# Altium schematic symbol library PI3B-NOA (1) (1).SCHLIB: 28 symbols
Pins are listed as number, name and electrical type; pins without a type are passive.

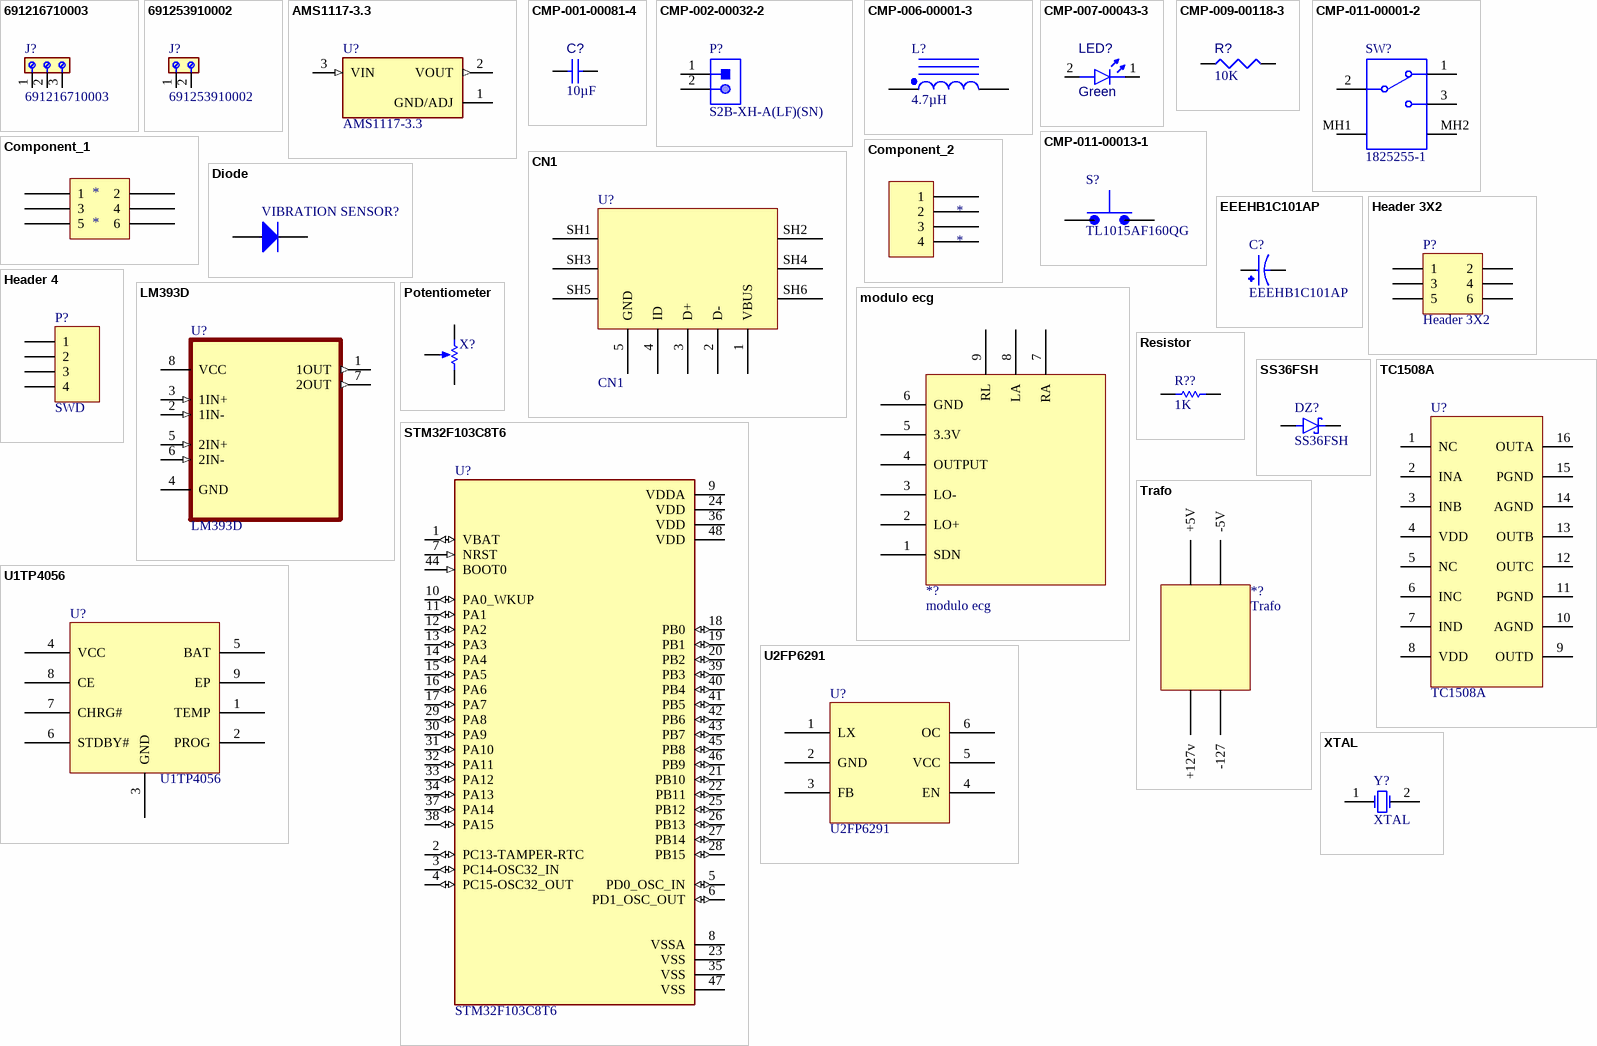
[diagram p0: symbols 691216710003 to XTAL]

## 691216710003
designator J?
5.00 MM TERMINAL BLOCK;; MF: WÃ¼rth Elektronik; SnapEDA_Link: https://www.snapeda.com/parts/691216710003/W%25C3%25BCrth+Elektronik+Midcom/view-part/?ref=snap; Package: None; Value: *; MP: 691216710003; Check_prices: https://www.snapeda.com/parts/691216710003/W%25C3%25BCrth+Elektronik+Midcom/view-part/?ref=eda
footprint 691216710003
pins: 1, 2, 3

## 691253910002
designator J?
7.50 MM TERMINAL BLOCK;; MF: WÃ¼rth Elektronik; SnapEDA_Link: https://www.snapeda.com/parts/691253910002/W%25C3%25BCrth+Elektronik+Midcom/view-part/?ref=snap; Package: None; Value: *; MP: 691253910002; Check_prices: https://www.snapeda.com/parts/691253910002/W%25C3%25BCrth+Elektronik+Midcom/view-part/?ref=eda
footprint 691253910002
pins: 1, 2

## AMS1117-3.3
designator U?
Sot223/Pkg 1-Amp 3.3-Volt Low Drop Out Voltage Regulatator; MF: Advanced Monolithic Systems; SnapEDA_Link: https://www.snapeda.com/parts/AMS1117-3.3/Advanced+Monolithic+Systems/view-part/?ref=snap; Package: SOT-223 Seeed Technology; Value: *; MP: AMS1117-3.3; Check_prices: https://www.snapeda.com/parts/AMS1117-3.3/Advanced+Monolithic+Systems/view-part/?ref=eda
footprint SOT229P700X180-4N
pins: 1 GND/ADJ (power), 2 VOUT (out), 3 VIN (in)

## CMP-001-00081-4
designator C?, comment value 10µF  (hidden comment: Capacitor 22µF +/-40% 16V 0805)
Chip Capacitor, 22µF +/-40%, 16V, 0805, Thickness 1.45 mm; Tolerance: 5%; Voltage Rating: 16V; Mounting Technology: SMT; Pins: 2; Max Operating Temperature: 85°C; Case/Package: 0805; Min Operating Temperature: -55°C
footprint CAPC0805(2012)145_L (Chip Capacitor, Body 2.0x1.2mm, Height 1.45mm, IPC High Density)
pins: 1, 2

## CMP-002-00032-2
designator P?, comment S2B-XH-A(LF)(SN)
Male Header, Pitch 2.5 mm, 1 x 2 Position, Height 6.1 mm, Tail Length 3.4 mm, -25 to 85 degC, RoHS, Bulk; Manufacturer: JST; Case/Package: S2B-XH-A(LF)(SN); Package Description: XH Series Disconnectable Crimp Style Connector, Pitch 2.5 mm, 1 x 2 Position, Height 6.1 mm, Tail Length 3.4 mm; Manufacturer URL: http://www.jst.com/home2.html; Datasheet URL: http://www.jst-mfg.com/product/pdf/eng/eXH.pdf; Connector Type: Header; Package Reference: S2B-XH-A(LF)(SN); Mounting Technology: TH; Max Operating Temperature: 85°C; Min Operating Temperature: -25°C; Datasheet Version: May-16; Gender: Male; RoHS Compliant: Unknown
footprint JST-S2B-XH-A(LF)(SN)_V (Header, 2-Leads, Body 7.4x11.5mm, Pitch 2.5mm)
pins: 1, 2

## CMP-006-00001-3
designator L?, comment Inductance: 4.7µH  (hidden comment: CSAB0630-100M)
Molded Inductor, 10 uH, +/- 20%, 77.2 mOhm, -55 to 125 degC, 2-Pin SMD, RoHS, Tape and Reel; Manufacturer: Shenzhen Codaca; Mounting Technology: SM; Datasheet URL: http://www.murata.com/products/catalog/pdf/c31e.pdf; Tolerance: 20%; RoHS Compliant: Unknown; Manufacturer URL: www.codaca.com.cn; Case/Package: CSAB0630-100M; Datasheet Version: Mar-14; Package Reference: CSAB0630-100M; Package Description: 2-Pin Surface Mount Device, Body 6 x 6 mm
footprint CODA-CSAB0630-100M_V (Molded Inductor, 2-Leads, Body 6.2x6.2mm)
pins: 1, 2

## CMP-007-00043-3
designator LED?, comment Green
Chip LED 0402, Yellow, 0.02 A, 3.1 to 3.7 V, -40 to 80 degC, 2-Pin SMD, RoHS, Tape and Reel; Mounting Technology: SMT; Case/Package: 0402; RoHS Compliant: Yes; Pins: 2; Colour: Yellow
footprint QTB-QBLP595_V (SMD, 2-Leads, Body 1x0.5mm)
pins: 1 K, 2 A

## CMP-009-00118-3
designator R?, comment value 10K  (hidden comment: Resistor 1K +/-5% 0805 125 mW)
Chip Resistor, 1 kOhms, +/-5%, 125 mW, -55 to 155 degC, 0805; Tolerance: 5%; Power: 125mW; Case/Package: 0805; Pins: 2; Min Operating Temperature: -55°C; Max Operating Temperature: 155°C
footprint RESC0805(2012)_L (Chip Resistor, Body 2.0x1.3mm, IPC High Density)
pins: 1, 2
1 alternate drawing of the same symbol

## CMP-011-00001-2
designator SW?, comment 1825255-1
Slide Switch, SPDT, 0.3A, 125 V, -20 to 85 degC, 5-Pin THD, RoHS, Tray; Manufacturer: TE Connectivity; Current Rating: 300mA; Voltage Rating (AC): 125V; Max Contact Resistance: 30mohm; Operating Force: 600gf; Manufacturer URL: http://www.te.com/; Max Current Rating: 300mA; Contact Plating: Silver; Contact Material: Copper; Datasheet URL: http://www.te.com/commerce/DocumentDelivery/DDEController?Action=showdoc&DocId=Customer+Drawing%7F1825255%7FA4%7Fpdf%7FEnglish%7FENG_CD_1825255_A4_baseFilename.pdf%7F1825255-1; Throw Configuration: SPDT; Packaging: Bulk; Package Quantity: 560; Max Voltage Rating (AC): 125V; Mounting Technology: TH; RoHS Compliant: True; Case/Package: 1825255-1; Datasheet Version: Rev. A4, 03/2014; Contact Finish: Silver; Package Reference: 1825255-1; Package Description: 5-Pin Through Hole Device, Body 6.7 x 16 mm, Pitch 4 mm; Min Operating Temperature: -20°C; Max Operating Temperature: 85°C
footprint TECO-1825255-1_V (THD, 5-Leads, Body 6.7x16mm, Pitch 4mm)
pins: 1, 2, 3, MH1, MH2

## CMP-011-00013-1
designator S?, comment TL1015AF160QG
Tactile Switch SPST-NO Top Actuated Surface Mount; Value: *; Component Type: Standard; Design Item ID: TL1015AF160QG; Source: TL1015AF160QG.SchLib; Case/Package: None; MP: TL1015AF160QG; Availability: Unavailable; Pins: 2; Price: None
footprint SW_TL1015AF160QG
pins: 1, 2

## CN1
designator U?
pins: 1 VBUS, 2 D-, 3 D+, 4 ID, 5 GND, SH1, SH2, SH3, SH4, SH5, SH6

## Component_1
designator *
pins: ?1 1, ?2 3, ?3 5, ?4 2, ?5 4, ?6 6

## Component_2
designator *
pins: ?1 1, ?2 2, ?3 3, ?4 4

## Diode
designator VIBRATION SENSOR?  (value not drawn)
AF: 1; BV: 0; BV_MAX: 1e99; EG: 1.11; FC: 0.5; IBV: 0.001; ISR: 1e-14; MJSW: 0.33; NTUN: 30; TNOM: 27; XTI: 3; SimulationGenericComponent: True; CJO: 0; CJP: 0; CTA: 0; CTP: 0; FCS: 0.5; FV_MAX: 1e99; IKF: 0; IKR: 0; JSW: 0; JTUN: 0; JTUNSW: 0; KEG: 1; KF: 0; LEVEL: 1; N: 1; NBV: 1; NR: 1; NS: 1; PHP: 1; RS: 0; TCV: 0; TLEV: 0; TLEVC: 0; TM1: 0; TM2: 0; TPB: 0; TPHP: 0; TRS: 0; TRS2: 0; TT: 0; TTT1: 0; TTT2: 0; VJ: 1; XTITUN: 3; IS: 1e-14
simulation model diode (Diodes)
pins: 1 A, 2 K

## EEEHB1C101AP
designator C?
100ÂµF 16V Aluminum Electrolytic Capacitors Radial, Can - SMD 2000 Hrs @ 105Â°C; MF: Panasonic; MP: EEE-HB1C101AP; SnapEDA_Link: https://www.snapeda.com/parts/EEE-HB1C101AP/Panasonic/view-part/?ref=snap; Package: RADIAL-2 Panasonic; Value: *; Check_prices: https://www.snapeda.com/parts/EEE-HB1C101AP/Panasonic/view-part/?ref=eda
footprint CAP_EEEHB1C101AP
pins: 1, 2

## Header 3X2
designator P?
Header, 3-Pin, Dual row; LatestRevisionDate: 17-Jul-2002; LatestRevisionNote: Re-released for DXP Platform.; Publisher: Altium Limited
footprint HDR2X3 (Connector; Header; 3x2 Position)
signal-integrity model Connector
pins: 1, 2, 3, 4, 5, 6

## Header 4
designator P?, comment SWD
Header, 4-Pin; LatestRevisionDate: 17-Jul-2002; LatestRevisionNote: Re-released for DXP Platform.; Publisher: Altium Limited
footprint HDR1X4 (Connector; Header; 4 Position)
signal-integrity model Connector
pins: 1, 2, 3, 4

## LM393D
designator U?
Comparator General Purpose CMOS, DTL, ECL, MOS, Open-Collector, TTL 8-SOIC; MF: STMicroelectronics; SnapEDA_Link: https://www.snapeda.com/parts/LM393D/STMicroelectronics/view-part/?ref=snap; Package: SOIC-8 STMicroelectronics; Value: *; MP: LM393D; Check_prices: https://www.snapeda.com/parts/LM393D/STMicroelectronics/view-part/?ref=eda
footprint SOIC127P600X175-8N
pins: 1 1OUT (out), 2 1IN- (in), 3 1IN+ (in), 4 GND, 5 2IN+ (in), 6 2IN- (in), 7 2OUT (out), 8 VCC (power)

## modulo ecg
designator *?
footprint MODULE_SEN-12650
pins: 1 SDN, 2 LO+, 3 LO-, 4 OUTPUT, 5 3.3V, 6 GND, 7 RA, 8 LA, 9 RL

## Potentiometer
designator X?  (value not drawn)
value: 1k; position: 0.5; SimulationGenericComponent: True
simulation model POT (POTENTIOMETER)
pins: 1 TOP, 2 BOT, 3 TAP

## Resistor
designator R??  value 1K  (hidden comment: Resistor)
TC1: 0; SimulationGenericComponent: True; TC2: 0
simulation model R_Resistor_Default (Model Description)
pins: 1, 2

## SS36FSH
designator DZ?
3A, 60V, Schottky Rectifier; MF: Taiwan Semiconductor; SnapEDA_Link: https://www.snapeda.com/parts/SS36FSH/Taiwan+Semiconductor/view-part/?ref=snap; Package: SOD-128-2 Taiwan Semiconductor; Value: *; MP: SS36FSH; Check_prices: https://www.snapeda.com/parts/SS36FSH/Taiwan+Semiconductor/view-part/?ref=eda
footprint SODFL4725X110N
pins: A, C K

## STM32F103C8T6
designator U?
ARM® Cortex®-M3 STM32F1 Microcontroller IC 32-Bit 72MHz 64KB (64K x 8) FLASH 48-LQFP (7x7); MF: STMicroelectronics; SnapEDA_Link: https://www.snapeda.com/parts/STM32F103C8T6/STMicroelectronics/view-part/?ref=snap; Package: LQFP-48 STMicroelectronics; Value: *; MP: STM32F103C8T6; Check_prices: https://www.snapeda.com/parts/STM32F103C8T6/STMicroelectronics/view-part/?ref=eda
footprint QFP50P900X900X160-48N
footprint QFP50P900X900X160-48N
pins: 1 VBAT (io), 2 PC13-TAMPER-RTC (io), 3 PC14-OSC32_IN (io), 4 PC15-OSC32_OUT (io), 5 PD0_OSC_IN (io), 6 PD1_OSC_OUT (io), 7 NRST (in), 8 VSSA (power), 9 VDDA (power), 10 PA0_WKUP (io), 11 PA1 (io), 12 PA2 (io), 13 PA3 (io), 14 PA4 (io), 15 PA5 (io), 16 PA6 (io), 17 PA7 (io), 18 PB0 (io), 19 PB1 (io), 20 PB2 (io), 21 PB10 (io), 22 PB11 (io), 23 VSS (power), 24 VDD (power), 25 PB12 (io), 26 PB13 (io), 27 PB14 (io), 28 PB15 (io), 29 PA8 (io), 30 PA9 (io), 31 PA10 (io), 32 PA11 (io), 33 PA12 (io), 34 PA13 (io), 35 VSS (power), 36 VDD (power), 37 PA14 (io), 38 PA15 (io), 39 PB3 (io), 40 PB4 (io), 41 PB5 (io), 42 PB6 (io), 43 PB7 (io), 44 BOOT0 (in), 45 PB8 (io), 46 PB9 (io), 47 VSS (power), 48 VDD (power)

## TC1508A
designator U?
pins: 1 NC, 2 INA, 3 INB, 4 VDD, 5 NC, 6 INC, 7 IND, 8 VDD, 9 OUTD, 10 AGND, 11 PGND, 12 OUTC, 13 OUTB, 14 AGND, 15 PGND, 16 OUTA

## Trafo
designator *?
pins: ?1 +5V, ?2 -5V, ?3 +127v, ?4 -127

## U1TP4056
designator U?
pins: 1 TEMP, 2 PROG, 3 GND, 4 VCC, 5 BAT, 6 STDBY#, 7 CHRG#, 8 CE, 9 EP

## U2FP6291
designator U?
pins: 1 LX, 2 GND, 3 FB, 4 EN, 5 VCC, 6 OC

## XTAL
designator Y?
Crystal Oscillator; Published: 8-Jun-2000; LatestRevisionDate: 17-Jul-2002; LatestRevisionNote: Re-released for DXP Platform.; PackageReference: R38; Publisher: Altium Limited; PackageDescription: Crystal, Thru-Hole; 2 Leads; Body 3.1 x 8.2 mm (Dia.xH)
footprint R38 (Crystal, Thru-Hole; 2 Leads; Body 3.1 x 8.2 mm (Dia.xH))
simulation model XTAL (Spice Subcircuit)
pins: 1 OSC1, 2 OSC2